# Altium schematic symbol library AVR.SchLib: 15 symbols
Pins are listed as number, name and electrical type; pins without a type are passive.

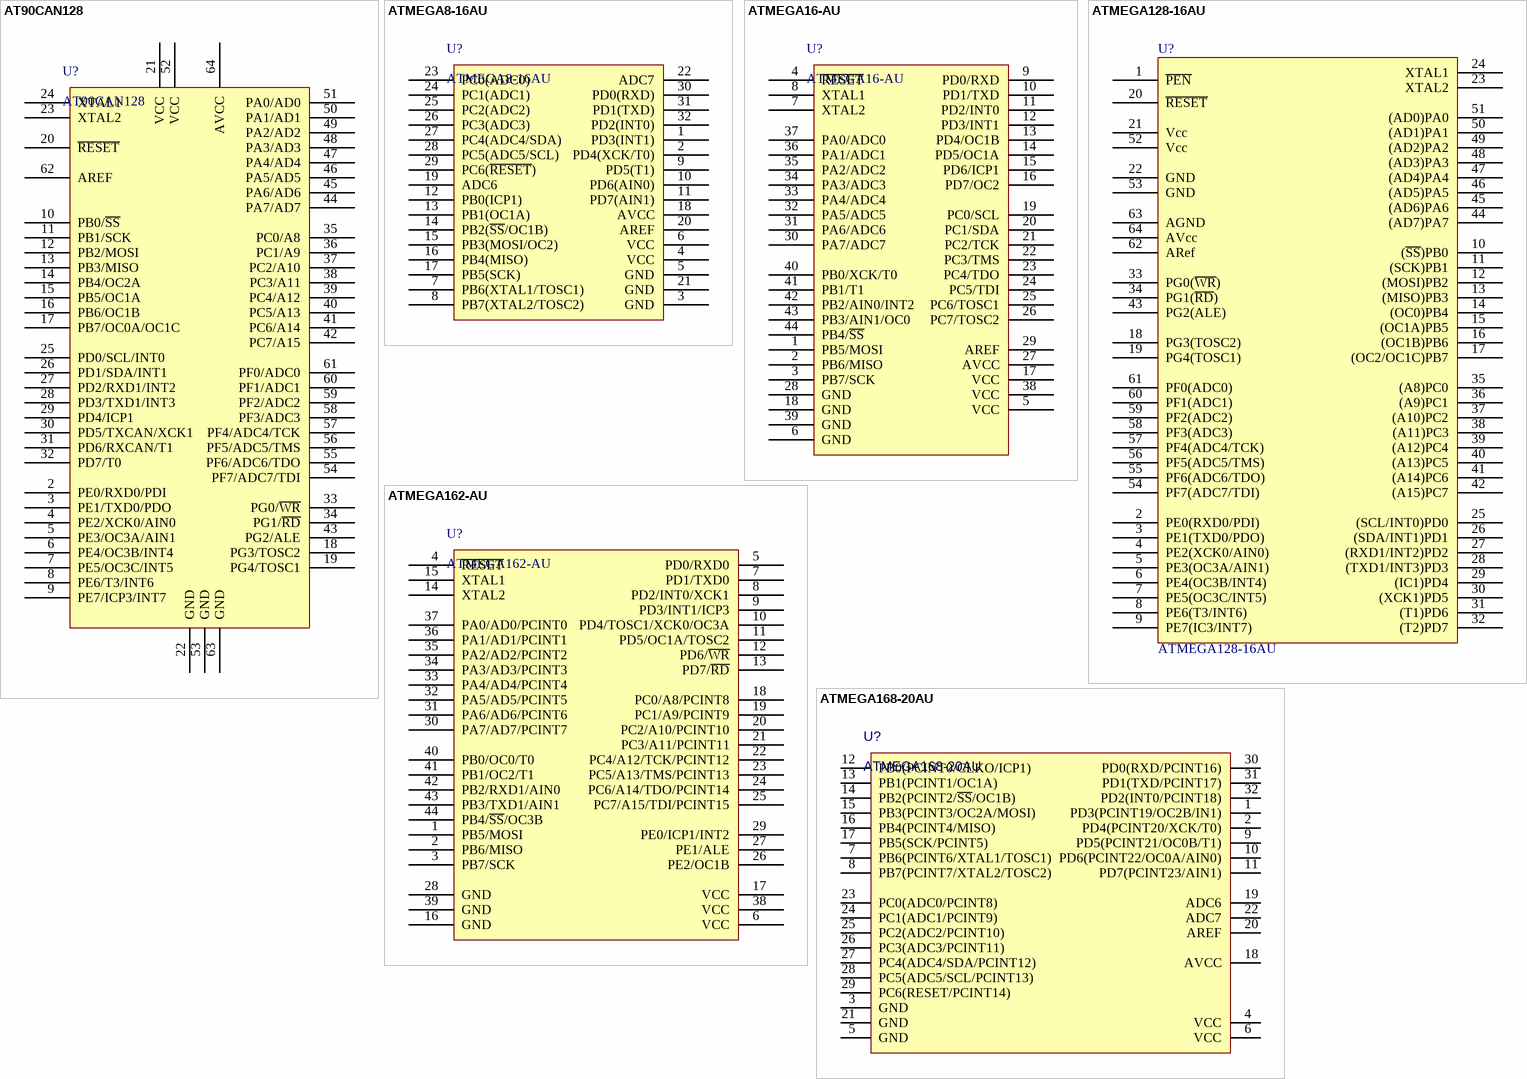
[diagram p0: symbols AT90CAN128 to ATMEGA168-20AU]

## AT90CAN128
designator U?
Value: AT90CAN128
footprint MS-026AEB
pins: 2 PE0/RXD0/PDI, 3 PE1/TXD0/PDO, 4 PE2/XCK0/AIN0, 5 PE3/OC3A/AIN1, 6 PE4/OC3B/INT4, 7 PE5/OC3C/INT5, 8 PE6/T3/INT6, 9 PE7/ICP3/INT7, 10 PB0/~{SS}, 11 PB1/SCK, 12 PB2/MOSI, 13 PB3/MISO, 14 PB4/OC2A, 15 PB5/OC1A, 16 PB6/OC1B, 17 PB7/OC0A/OC1C, 18 PG3/TOSC2, 19 PG4/TOSC1, 20 ~{RESET}, 21 VCC, 22 GND, 23 XTAL2, 24 XTAL1, 25 PD0/SCL/INT0, 26 PD1/SDA/INT1, 27 PD2/RXD1/INT2, 28 PD3/TXD1/INT3, 29 PD4/ICP1, 30 PD5/TXCAN/XCK1, 31 PD6/RXCAN/T1, 32 PD7/T0, 33 PG0/~{WR}, 34 PG1/~{RD}, 35 PC0/A8, 36 PC1/A9, 37 PC2/A10, 38 PC3/A11, 39 PC4/A12, 40 PC5/A13, 41 PC6/A14, 42 PC7/A15, 43 PG2/ALE, 44 PA7/AD7, 45 PA6/AD6, 46 PA5/AD5, 47 PA4/AD4, 48 PA3/AD3, 49 PA2/AD2, 50 PA1/AD1, 51 PA0/AD0, 52 VCC, 53 GND, 54 PF7/ADC7/TDI, 55 PF6/ADC6/TDO, 56 PF5/ADC5/TMS, 57 PF4/ADC4/TCK, 58 PF3/ADC3, 59 PF2/ADC2, 60 PF1/ADC1, 61 PF0/ADC0, 62 AREF, 63 GND, 64 AVCC

## ATMEGA8-16AU
designator U?
Value: ATMEGA8-16AU
footprint MS-026ABA
pins: 1 PD3(INT1), 2 PD4(XCK/T0), 3 GND, 4 VCC, 5 GND, 6 VCC, 7 PB6(XTAL1/TOSC1), 8 PB7(XTAL2/TOSC2), 9 PD5(T1), 10 PD6(AIN0), 11 PD7(AIN1), 12 PB0(ICP1), 13 PB1(OC1A), 14 PB2(~{SS}/OC1B), 15 PB3(MOSI/OC2), 16 PB4(MISO), 17 PB5(SCK), 18 AVCC, 19 ADC6, 20 AREF, 21 GND, 22 ADC7, 23 PC0(ADC0), 24 PC1(ADC1), 25 PC2(ADC2), 26 PC3(ADC3), 27 PC4(ADC4/SDA), 28 PC5(ADC5/SCL), 29 PC6(~{RESET}), 30 PD0(RXD), 31 PD1(TXD), 32 PD2(INT0)

## ATMEGA16-AU
designator U?
Value: ATMEGA16-AU
pins: 1 PB5/MOSI, 2 PB6/MISO, 3 PB7/SCK, 4 ~{RESET}, 5 VCC, 6 GND, 7 XTAL2, 8 XTAL1, 9 PD0/RXD, 10 PD1/TXD, 11 PD2/INT0, 12 PD3/INT1, 13 PD4/OC1B, 14 PD5/OC1A, 15 PD6/ICP1, 16 PD7/OC2, 17 VCC, 18 GND, 19 PC0/SCL, 20 PC1/SDA, 21 PC2/TCK, 22 PC3/TMS, 23 PC4/TDO, 24 PC5/TDI, 25 PC6/TOSC1, 26 PC7/TOSC2, 27 AVCC, 28 GND, 29 AREF, 30 PA7/ADC7, 31 PA6/ADC6, 32 PA5/ADC5, 33 PA4/ADC4, 34 PA3/ADC3, 35 PA2/ADC2, 36 PA1/ADC1, 37 PA0/ADC0, 38 VCC, 39 GND, 40 PB0/XCK/T0, 41 PB1/T1, 42 PB2/AIN0/INT2, 43 PB3/AIN1/OC0, 44 PB4/~{SS}

## ATMEGA128-16AU
designator U?
Supplier1: JM Elektronik
footprint MS-026AEB
pins: 1 ~{PEN}, 2 PE0(RXD0/PDI), 3 PE1(TXD0/PDO), 4 PE2(XCK0/AIN0), 5 PE3(OC3A/AIN1), 6 PE4(OC3B/INT4), 7 PE5(OC3C/INT5), 8 PE6(T3/INT6), 9 PE7(IC3/INT7), 10 (~{SS})PB0, 11 (SCK)PB1, 12 (MOSI)PB2, 13 (MISO)PB3, 14 (OC0)PB4, 15 (OC1A)PB5, 16 (OC1B)PB6, 17 (OC2/OC1C)PB7, 18 PG3(TOSC2), 19 PG4(TOSC1), 20 ~{RESET}, 21 Vcc, 22 GND, 23 XTAL2, 24 XTAL1, 25 (SCL/INT0)PD0, 26 (SDA/INT1)PD1, 27 (RXD1/INT2)PD2, 28 (TXD1/INT3)PD3, 29 (IC1)PD4, 30 (XCK1)PD5, 31 (T1)PD6, 32 (T2)PD7, 33 PG0(~{WR}), 34 PG1(~{RD}), 35 (A8)PC0, 36 (A9)PC1, 37 (A10)PC2, 38 (A11)PC3, 39 (A12)PC4, 40 (A13)PC5, 41 (A14)PC6, 42 (A15)PC7, 43 PG2(ALE), 44 (AD7)PA7, 45 (AD6)PA6, 46 (AD5)PA5, 47 (AD4)PA4, 48 (AD3)PA3, 49 (AD2)PA2, 50 (AD1)PA1, 51 (AD0)PA0, 52 Vcc, 53 GND, 54 PF7(ADC7/TDI), 55 PF6(ADC6/TDO), 56 PF5(ADC5/TMS), 57 PF4(ADC4/TCK), 58 PF3(ADC3), 59 PF2(ADC2), 60 PF1(ADC1), 61 PF0(ADC0), 62 ARef, 63 AGND, 64 AVcc

## ATMEGA162-AU
designator U?
Value: ATMEGA162-AU
pins: 1 PB5/MOSI, 2 PB6/MISO, 3 PB7/SCK, 4 ~{RESET}, 5 PD0/RXD0, 6 VCC, 7 PD1/TXD0, 8 PD2/INT0/XCK1, 9 PD3/INT1/ICP3, 10 PD4/TOSC1/XCK0/OC3A, 11 PD5/OC1A/TOSC2, 12 PD6/~{WR}, 13 PD7/~{RD}, 14 XTAL2, 15 XTAL1, 16 GND, 17 VCC, 18 PC0/A8/PCINT8, 19 PC1/A9/PCINT9, 20 PC2/A10/PCINT10, 21 PC3/A11/PCINT11, 22 PC4/A12/TCK/PCINT12, 23 PC5/A13/TMS/PCINT13, 24 PC6/A14/TDO/PCINT14, 25 PC7/A15/TDI/PCINT15, 26 PE2/OC1B, 27 PE1/ALE, 28 GND, 29 PE0/ICP1/INT2, 30 PA7/AD7/PCINT7, 31 PA6/AD6/PCINT6, 32 PA5/AD5/PCINT5, 33 PA4/AD4/PCINT4, 34 PA3/AD3/PCINT3, 35 PA2/AD2/PCINT2, 36 PA1/AD1/PCINT1, 37 PA0/AD0/PCINT0, 38 VCC, 39 GND, 40 PB0/OC0/T0, 41 PB1/OC2/T1, 42 PB2/RXD1/AIN0, 43 PB3/TXD1/AIN1, 44 PB4/~{SS}/OC3B

## ATMEGA168-20AU
designator U?
Value: ATMEGA168-20AU
pins: 1 PD3(PCINT19/OC2B/IN1), 2 PD4(PCINT20/XCK/T0), 3 GND, 4 VCC, 5 GND, 6 VCC, 7 PB6(PCINT6/XTAL1/TOSC1), 8 PB7(PCINT7/XTAL2/TOSC2), 9 PD5(PCINT21/OC0B/T1), 10 PD6(PCINT22/OC0A/AIN0), 11 PD7(PCINT23/AIN1), 12 PB0(PCINT0/CLKO/ICP1), 13 PB1(PCINT1/OC1A), 14 PB2(PCINT2/~{SS}/OC1B), 15 PB3(PCINT3/OC2A/MOSI), 16 PB4(PCINT4/MISO), 17 PB5(SCK/PCINT5), 18 AVCC, 19 ADC6, 20 AREF, 21 GND, 22 ADC7, 23 PC0(ADC0/PCINT8), 24 PC1(ADC1/PCINT9), 25 PC2(ADC2/PCINT10), 26 PC3(ADC3/PCINT11), 27 PC4(ADC4/SDA/PCINT12), 28 PC5(ADC5/SCL/PCINT13), 29 PC6(RESET/PCINT14), 30 PD0(RXD/PCINT16), 31 PD1(TXD/PCINT17), 32 PD2(INT0/PCINT18)

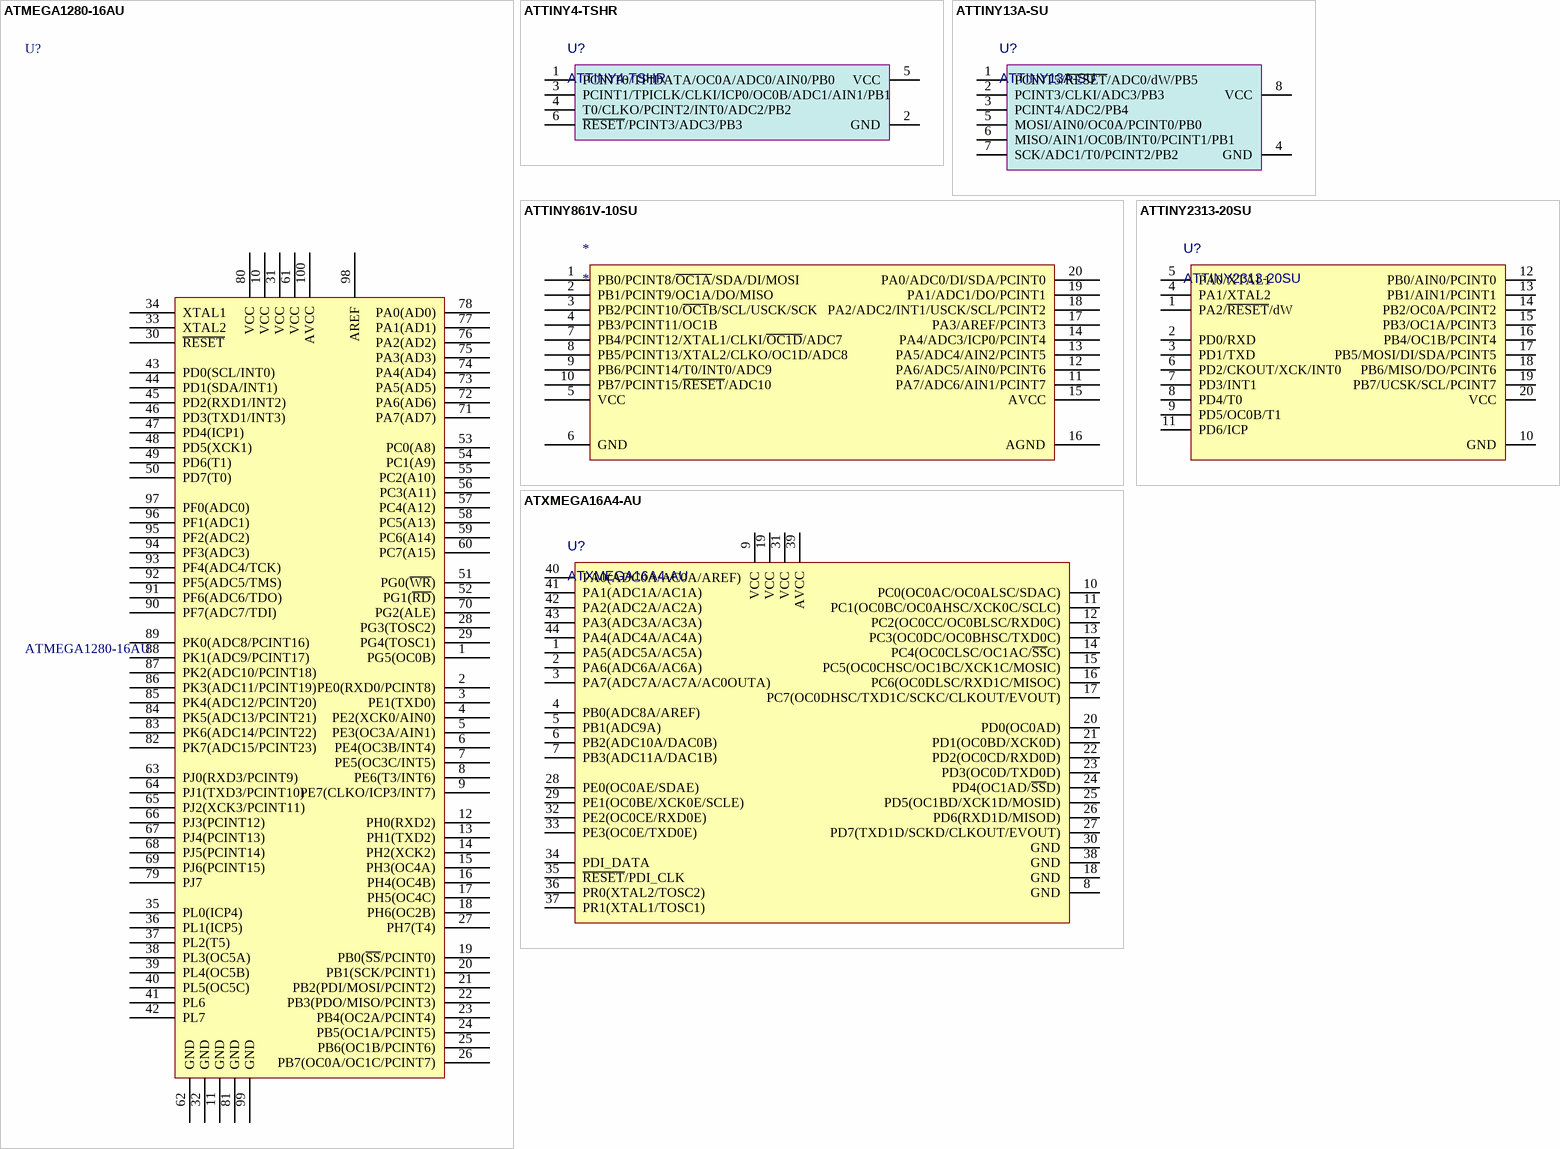
[diagram p1: symbols ATMEGA1280-16AU to ATXMEGA16A4-AU]

## ATMEGA1280-16AU
designator U?
Value: ATMEGA1280-16AU
pins: 1 PG5(OC0B), 2 PE0(RXD0/PCINT8), 3 PE1(TXD0), 4 PE2(XCK0/AIN0), 5 PE3(OC3A/AIN1), 6 PE4(OC3B/INT4), 7 PE5(OC3C/INT5), 8 PE6(T3/INT6), 9 PE7(CLKO/ICP3/INT7), 10 VCC, 11 GND, 12 PH0(RXD2), 13 PH1(TXD2), 14 PH2(XCK2), 15 PH3(OC4A), 16 PH4(OC4B), 17 PH5(OC4C), 18 PH6(OC2B), 19 PB0(~{SS}/PCINT0), 20 PB1(SCK/PCINT1), 21 PB2(PDI/MOSI/PCINT2), 22 PB3(PDO/MISO/PCINT3), 23 PB4(OC2A/PCINT4), 24 PB5(OC1A/PCINT5), 25 PB6(OC1B/PCINT6), 26 PB7(OC0A/OC1C/PCINT7), 27 PH7(T4), 28 PG3(TOSC2), 29 PG4(TOSC1), 30 ~{RESET}, 31 VCC, 32 GND, 33 XTAL2, 34 XTAL1, 35 PL0(ICP4), 36 PL1(ICP5), 37 PL2(T5), 38 PL3(OC5A), 39 PL4(OC5B), 40 PL5(OC5C), 41 PL6, 42 PL7, 43 PD0(SCL/INT0), 44 PD1(SDA/INT1), 45 PD2(RXD1/INT2), 46 PD3(TXD1/INT3), 47 PD4(ICP1), 48 PD5(XCK1), 49 PD6(T1), 50 PD7(T0), 51 PG0(~{WR}), 52 PG1(~{RD}), 53 PC0(A8), 54 PC1(A9), 55 PC2(A10), 56 PC3(A11), 57 PC4(A12), 58 PC5(A13), 59 PC6(A14), 60 PC7(A15), 61 VCC, 62 GND, 63 PJ0(RXD3/PCINT9), 64 PJ1(TXD3/PCINT10), 65 PJ2(XCK3/PCINT11), 66 PJ3(PCINT12), 67 PJ4(PCINT13), 68 PJ5(PCINT14), 69 PJ6(PCINT15), 70 PG2(ALE), 71 PA7(AD7), 72 PA6(AD6), 73 PA5(AD5), 74 PA4(AD4), 75 PA3(AD3), 76 PA2(AD2), 77 PA1(AD1), 78 PA0(AD0), 79 PJ7, 80 VCC, 81 GND, 82 PK7(ADC15/PCINT23), 83 PK6(ADC14/PCINT22), 84 PK5(ADC13/PCINT21), 85 PK4(ADC12/PCINT20), 86 PK3(ADC11/PCINT19), 87 PK2(ADC10/PCINT18), 88 PK1(ADC9/PCINT17), 89 PK0(ADC8/PCINT16), 90 PF7(ADC7/TDI), 91 PF6(ADC6/TDO), 92 PF5(ADC5/TMS), 93 PF4(ADC4/TCK), 94 PF3(ADC3), 95 PF2(ADC2), 96 PF1(ADC1), 97 PF0(ADC0), 98 AREF, 99 GND, 100 AVCC

## ATTINY4-TSHR
designator U?
Value: ATTINY4-TSHR
pins: 1 PCINT0/TPIDATA/OC0A/ADC0/AIN0/PB0, 2 GND, 3 PCINT1/TPICLK/CLKI/ICP0/OC0B/ADC1/AIN1/PB1, 4 T0/CLKO/PCINT2/INT0/ADC2/PB2, 5 VCC, 6 ~{RESET}/PCINT3/ADC3/PB3

## ATTINY13A-SU
designator U?
Value: ATTINY13A-SU
pins: 1 PCINT5/~{RESET}/ADC0/dW/PB5, 2 PCINT3/CLKI/ADC3/PB3, 3 PCINT4/ADC2/PB4, 4 GND, 5 MOSI/AIN0/OC0A/PCINT0/PB0, 6 MISO/AIN1/OC0B/INT0/PCINT1/PB1, 7 SCK/ADC1/T0/PCINT2/PB2, 8 VCC

## ATTINY861V-10SU
designator *
pins: 1 PB0/PCINT8/~{OC1A}/SDA/DI/MOSI, 2 PB1/PCINT9/OC1A/DO/MISO, 3 PB2/PCINT10/~{OC1}B/SCL/USCK/SCK, 4 PB3/PCINT11/OC1B, 5 VCC, 6 GND, 7 PB4/PCINT12/XTAL1/CLKI/~{OC1D}/ADC7, 8 PB5/PCINT13/XTAL2/CLKO/OC1D/ADC8, 9 PB6/PCINT14/T0/INT0/ADC9, 10 PB7/PCINT15/~{RESET}/ADC10, 11 PA7/ADC6/AIN1/PCINT7, 12 PA6/ADC5/AIN0/PCINT6, 13 PA5/ADC4/AIN2/PCINT5, 14 PA4/ADC3/ICP0/PCINT4, 15 AVCC, 16 AGND, 17 PA3/AREF/PCINT3, 18 PA2/ADC2/INT1/USCK/SCL/PCINT2, 19 PA1/ADC1/DO/PCINT1, 20 PA0/ADC0/DI/SDA/PCINT0

## ATTINY2313-20SU
designator U?
Value: ATTINY2313-20SU
pins: 1 PA2/~{RESET}/dW, 2 PD0/RXD, 3 PD1/TXD, 4 PA1/XTAL2, 5 PA0/XTAL1, 6 PD2/CKOUT/XCK/INT0, 7 PD3/INT1, 8 PD4/T0, 9 PD5/OC0B/T1, 10 GND, 11 PD6/ICP, 12 PB0/AIN0/PCINT0, 13 PB1/AIN1/PCINT1, 14 PB2/OC0A/PCINT2, 15 PB3/OC1A/PCINT3, 16 PB4/OC1B/PCINT4, 17 PB5/MOSI/DI/SDA/PCINT5, 18 PB6/MISO/DO/PCINT6, 19 PB7/UCSK/SCL/PCINT7, 20 VCC

## ATXMEGA16A4-AU
designator U?
Value: ATXMEGA16A4-AU
pins: 1 PA5(ADC5A/AC5A), 2 PA6(ADC6A/AC6A), 3 PA7(ADC7A/AC7A/AC0OUTA), 4 PB0(ADC8A/AREF), 5 PB1(ADC9A), 6 PB2(ADC10A/DAC0B), 7 PB3(ADC11A/DAC1B), 8 GND, 9 VCC, 10 PC0(OC0AC/OC0ALSC/SDAC), 11 PC1(OC0BC/OC0AHSC/XCK0C/SCLC), 12 PC2(OC0CC/OC0BLSC/RXD0C), 13 PC3(OC0DC/OC0BHSC/TXD0C), 14 PC4(OC0CLSC/OC1AC/~{SS}C), 15 PC5(OC0CHSC/OC1BC/XCK1C/MOSIC), 16 PC6(OC0DLSC/RXD1C/MISOC), 17 PC7(OC0DHSC/TXD1C/SCKC/CLKOUT/EVOUT), 18 GND, 19 VCC, 20 PD0(OC0AD), 21 PD1(OC0BD/XCK0D), 22 PD2(OC0CD/RXD0D), 23 PD3(OC0D/TXD0D), 24 PD4(OC1AD/~{SS}D), 25 PD5(OC1BD/XCK1D/MOSID), 26 PD6(RXD1D/MISOD), 27 PD7(TXD1D/SCKD/CLKOUT/EVOUT), 28 PE0(OC0AE/SDAE), 29 PE1(OC0BE/XCK0E/SCLE), 30 GND, 31 VCC, 32 PE2(OC0CE/RXD0E), 33 PE3(OC0E/TXD0E), 34 PDI_DATA, 35 ~{RESET}/PDI_CLK, 36 PR0(XTAL2/TOSC2), 37 PR1(XTAL1/TOSC1), 38 GND, 39 AVCC, 40 PA0(ADC0A/AC0A/AREF), 41 PA1(ADC1A/AC1A), 42 PA2(ADC2A/AC2A), 43 PA3(ADC3A/AC3A), 44 PA4(ADC4A/AC4A)

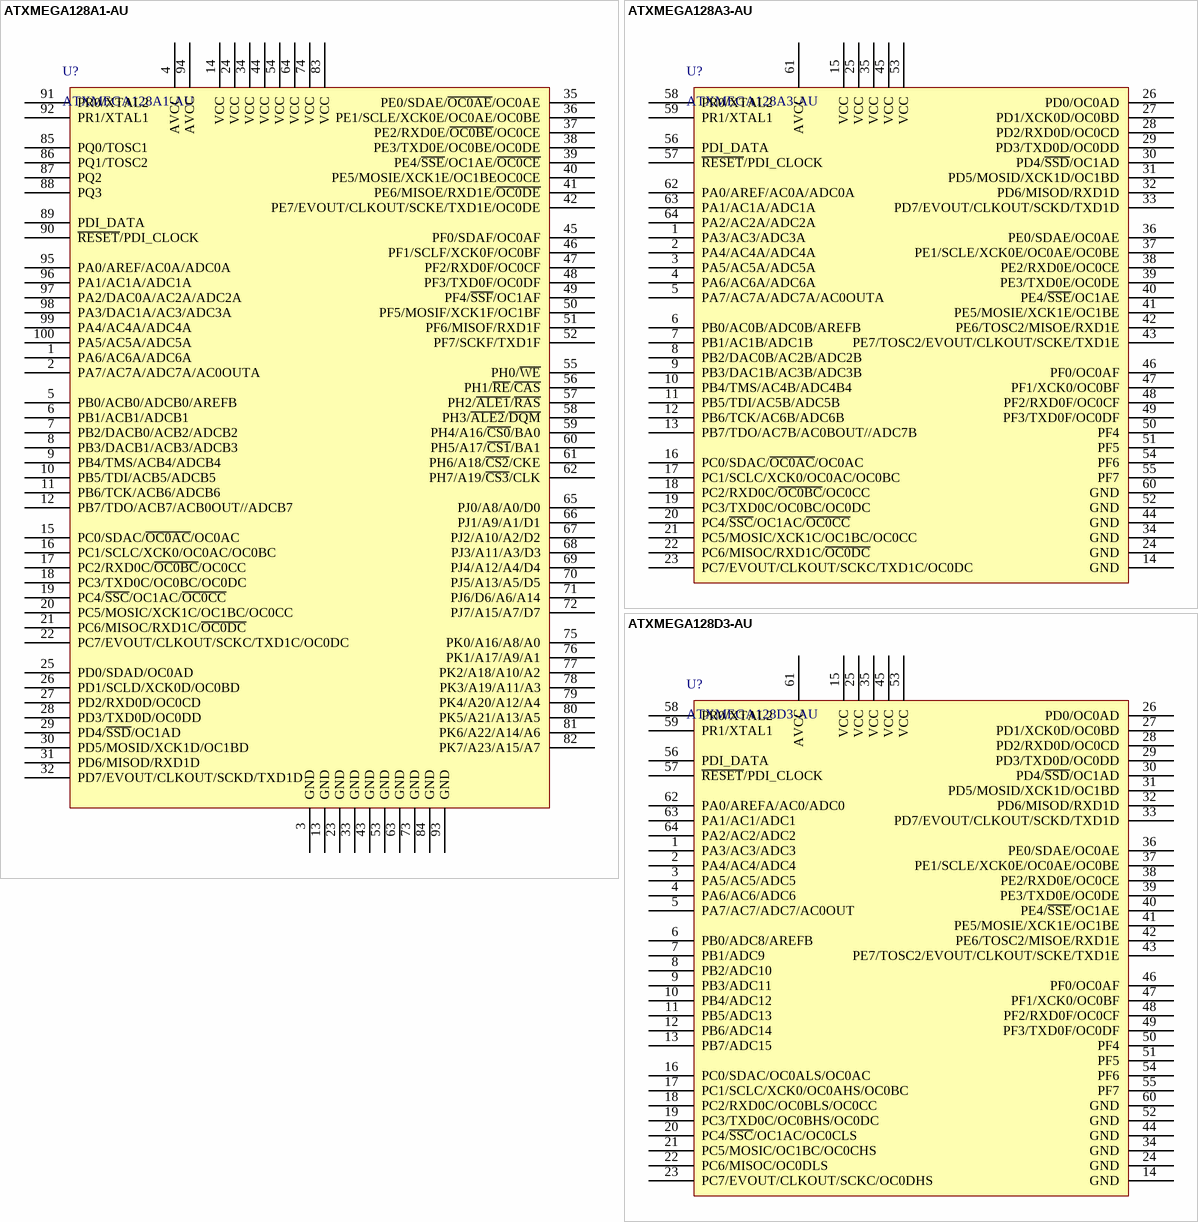
[diagram p2: symbols ATXMEGA128A1-AU to ATXMEGA128D3-AU]

## ATXMEGA128A1-AU
designator U?
Value: ATXMEGA128A1-AU
pins: 1 PA6/AC6A/ADC6A, 2 PA7/AC7A/ADC7A/AC0OUTA, 3 GND, 4 AVCC, 5 PB0/ACB0/ADCB0/AREFB, 6 PB1/ACB1/ADCB1, 7 PB2/DACB0/ACB2/ADCB2, 8 PB3/DACB1/ACB3/ADCB3, 9 PB4/TMS/ACB4/ADCB4, 10 PB5/TDI/ACB5/ADCB5, 11 PB6/TCK/ACB6/ADCB6, 12 PB7/TDO/ACB7/ACB0OUT//ADCB7, 13 GND, 14 VCC, 15 PC0/SDAC/~{OC0AC}/OC0AC, 16 PC1/SCLC/XCK0/OC0AC/OC0BC, 17 PC2/RXD0C/~{OC0BC}/OC0CC, 18 PC3/TXD0C/OC0BC/OC0DC, 19 PC4/~{SSC}/OC1AC/~{OC0CC}, 20 PC5/MOSIC/XCK1C/OC1BC/OC0CC, 21 PC6/MISOC/RXD1C/~{OC0DC}, 22 PC7/EVOUT/CLKOUT/SCKC/TXD1C/OC0DC, 23 GND, 24 VCC, 25 PD0/SDAD/OC0AD, 26 PD1/SCLD/XCK0D/OC0BD, 27 PD2/RXD0D/OC0CD, 28 PD3/TXD0D/OC0DD, 29 PD4/~{SSD}/OC1AD, 30 PD5/MOSID/XCK1D/OC1BD, 31 PD6/MISOD/RXD1D, 32 PD7/EVOUT/CLKOUT/SCKD/TXD1D, 33 GND, 34 VCC, 35 PE0/SDAE/~{OC0AE}/OC0AE, 36 PE1/SCLE/XCK0E/OC0AE/OC0BE, 37 PE2/RXD0E/~{OC0BE}/OC0CE, 38 PE3/TXD0E/OC0BE/OC0DE, 39 PE4/~{SSE}/OC1AE/~{OC0CE}, 40 PE5/MOSIE/XCK1E/OC1BEOC0CE, 41 PE6/MISOE/RXD1E/~{OC0DE}, 42 PE7/EVOUT/CLKOUT/SCKE/TXD1E/OC0DE, 43 GND, 44 VCC, 45 PF0/SDAF/OC0AF, 46 PF1/SCLF/XCK0F/OC0BF, 47 PF2/RXD0F/OC0CF, 48 PF3/TXD0F/OC0DF, 49 PF4/~{SSF}/OC1AF, 50 PF5/MOSIF/XCK1F/OC1BF, 51 PF6/MISOF/RXD1F, 52 PF7/SCKF/TXD1F, 53 GND, 54 VCC, 55 PH0/~{WE}, 56 PH1/~{RE}/~{CAS}, 57 PH2/~{ALE1}/~{RAS}, 58 PH3/~{ALE2}/~{DQM}, 59 PH4/A16/~{CS0}/BA0, 60 PH5/A17/~{CS1}/BA1, 61 PH6/A18/~{CS2}/CKE, 62 PH7/A19/~{CS3}/CLK, 63 GND, 64 VCC, 65 PJ0/A8/A0/D0, 66 PJ1/A9/A1/D1, 67 PJ2/A10/A2/D2, 68 PJ3/A11/A3/D3, 69 PJ4/A12/A4/D4, 70 PJ5/A13/A5/D5, 71 PJ6/D6/A6/A14, 72 PJ7/A15/A7/D7, 73 GND, 74 VCC, 75 PK0/A16/A8/A0, 76 PK1/A17/A9/A1, 77 PK2/A18/A10/A2, 78 PK3/A19/A11/A3, 79 PK4/A20/A12/A4, 80 PK5/A21/A13/A5, 81 PK6/A22/A14/A6, 82 PK7/A23/A15/A7, 83 VCC, 84 GND, 85 PQ0/TOSC1, 86 PQ1/TOSC2, 87 PQ2, 88 PQ3, 89 PDI_DATA, 90 ~{RESET}/PDI_CLOCK, 91 PR0/XTAL2, 92 PR1/XTAL1, 93 GND, 94 AVCC, 95 PA0/AREF/AC0A/ADC0A, 96 PA1/AC1A/ADC1A, 97 PA2/DAC0A/AC2A/ADC2A, 98 PA3/DAC1A/AC3/ADC3A, 99 PA4/AC4A/ADC4A, 100 PA5/AC5A/ADC5A

## ATXMEGA128A3-AU
designator U?
Value: ATXMEGA128A3-AU
pins: 1 PA3/AC3/ADC3A, 2 PA4/AC4A/ADC4A, 3 PA5/AC5A/ADC5A, 4 PA6/AC6A/ADC6A, 5 PA7/AC7A/ADC7A/AC0OUTA, 6 PB0/AC0B/ADC0B/AREFB, 7 PB1/AC1B/ADC1B, 8 PB2/DAC0B/AC2B/ADC2B, 9 PB3/DAC1B/AC3B/ADC3B, 10 PB4/TMS/AC4B/ADC4B4, 11 PB5/TDI/AC5B/ADC5B, 12 PB6/TCK/AC6B/ADC6B, 13 PB7/TDO/AC7B/AC0BOUT//ADC7B, 14 GND, 15 VCC, 16 PC0/SDAC/~{OC0AC}/OC0AC, 17 PC1/SCLC/XCK0/OC0AC/OC0BC, 18 PC2/RXD0C/~{OC0BC}/OC0CC, 19 PC3/TXD0C/OC0BC/OC0DC, 20 PC4/~{SSC}/OC1AC/~{OC0CC}, 21 PC5/MOSIC/XCK1C/OC1BC/OC0CC, 22 PC6/MISOC/RXD1C/~{OC0DC}, 23 PC7/EVOUT/CLKOUT/SCKC/TXD1C/OC0DC, 24 GND, 25 VCC, 26 PD0/OC0AD, 27 PD1/XCK0D/OC0BD, 28 PD2/RXD0D/OC0CD, 29 PD3/TXD0D/OC0DD, 30 PD4/~{SSD}/OC1AD, 31 PD5/MOSID/XCK1D/OC1BD, 32 PD6/MISOD/RXD1D, 33 PD7/EVOUT/CLKOUT/SCKD/TXD1D, 34 GND, 35 VCC, 36 PE0/SDAE/OC0AE, 37 PE1/SCLE/XCK0E/OC0AE/OC0BE, 38 PE2/RXD0E/OC0CE, 39 PE3/TXD0E/OC0DE, 40 PE4/~{SSE}/OC1AE, 41 PE5/MOSIE/XCK1E/OC1BE, 42 PE6/TOSC2/MISOE/RXD1E, 43 PE7/TOSC2/EVOUT/CLKOUT/SCKE/TXD1E, 44 GND, 45 VCC, 46 PF0/OC0AF, 47 PF1/XCK0/OC0BF, 48 PF2/RXD0F/OC0CF, 49 PF3/TXD0F/OC0DF, 50 PF4, 51 PF5, 52 GND, 53 VCC, 54 PF6, 55 PF7, 56 PDI_DATA, 57 ~{RESET}/PDI_CLOCK, 58 PR0/XTAL2, 59 PR1/XTAL1, 60 GND, 61 AVCC, 62 PA0/AREF/AC0A/ADC0A, 63 PA1/AC1A/ADC1A, 64 PA2/AC2A/ADC2A

## ATXMEGA128D3-AU
designator U?
Value: ATXMEGA128D3-AU
pins: 1 PA3/AC3/ADC3, 2 PA4/AC4/ADC4, 3 PA5/AC5/ADC5, 4 PA6/AC6/ADC6, 5 PA7/AC7/ADC7/AC0OUT, 6 PB0/ADC8/AREFB, 7 PB1/ADC9, 8 PB2/ADC10, 9 PB3/ADC11, 10 PB4/ADC12, 11 PB5/ADC13, 12 PB6/ADC14, 13 PB7/ADC15, 14 GND, 15 VCC, 16 PC0/SDAC/OC0ALS/OC0AC, 17 PC1/SCLC/XCK0/OC0AHS/OC0BC, 18 PC2/RXD0C/OC0BLS/OC0CC, 19 PC3/TXD0C/OC0BHS/OC0DC, 20 PC4/~{SSC}/OC1AC/OC0CLS, 21 PC5/MOSIC/OC1BC/OC0CHS, 22 PC6/MISOC/OC0DLS, 23 PC7/EVOUT/CLKOUT/SCKC/OC0DHS, 24 GND, 25 VCC, 26 PD0/OC0AD, 27 PD1/XCK0D/OC0BD, 28 PD2/RXD0D/OC0CD, 29 PD3/TXD0D/OC0DD, 30 PD4/~{SSD}/OC1AD, 31 PD5/MOSID/XCK1D/OC1BD, 32 PD6/MISOD/RXD1D, 33 PD7/EVOUT/CLKOUT/SCKD/TXD1D, 34 GND, 35 VCC, 36 PE0/SDAE/OC0AE, 37 PE1/SCLE/XCK0E/OC0AE/OC0BE, 38 PE2/RXD0E/OC0CE, 39 PE3/TXD0E/OC0DE, 40 PE4/~{SSE}/OC1AE, 41 PE5/MOSIE/XCK1E/OC1BE, 42 PE6/TOSC2/MISOE/RXD1E, 43 PE7/TOSC2/EVOUT/CLKOUT/SCKE/TXD1E, 44 GND, 45 VCC, 46 PF0/OC0AF, 47 PF1/XCK0/OC0BF, 48 PF2/RXD0F/OC0CF, 49 PF3/TXD0F/OC0DF, 50 PF4, 51 PF5, 52 GND, 53 VCC, 54 PF6, 55 PF7, 56 PDI_DATA, 57 ~{RESET}/PDI_CLOCK, 58 PR0/XTAL2, 59 PR1/XTAL1, 60 GND, 61 AVCC, 62 PA0/AREFA/AC0/ADC0, 63 PA1/AC1/ADC1, 64 PA2/AC2/ADC2